# EAGLE library part JY-MCU (library Bluetooth)
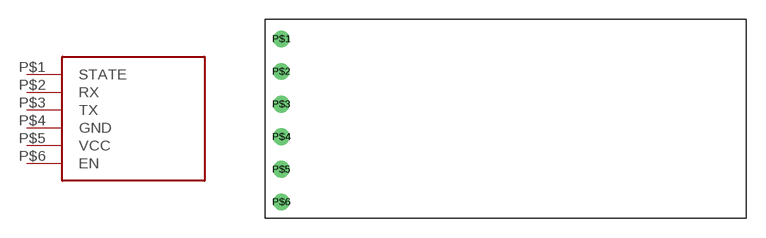
[diagram p0: symbol with the pads of JY-MCU; footprint JY-MCU]

Designator prefix -

## JY-MCU  [JY-MCU]
P$1  STATE  out
P$2  RX  in
P$3  TX  out
P$4  GND  pwr
P$5  VCC  pwr
P$6  EN  in

## Footprint JY-MCU (pad centres in mm)
drill 0.8: P$1 1.27,13.97; P$2 1.27,11.43; P$3 1.27,8.89; P$4 1.27,6.35; P$5 1.27,3.81; P$6 1.27,1.27